# Altium schematic symbol library LEDs.SchLib: 35 symbols
Pins are listed as number, name and electrical type; pins without a type are passive.

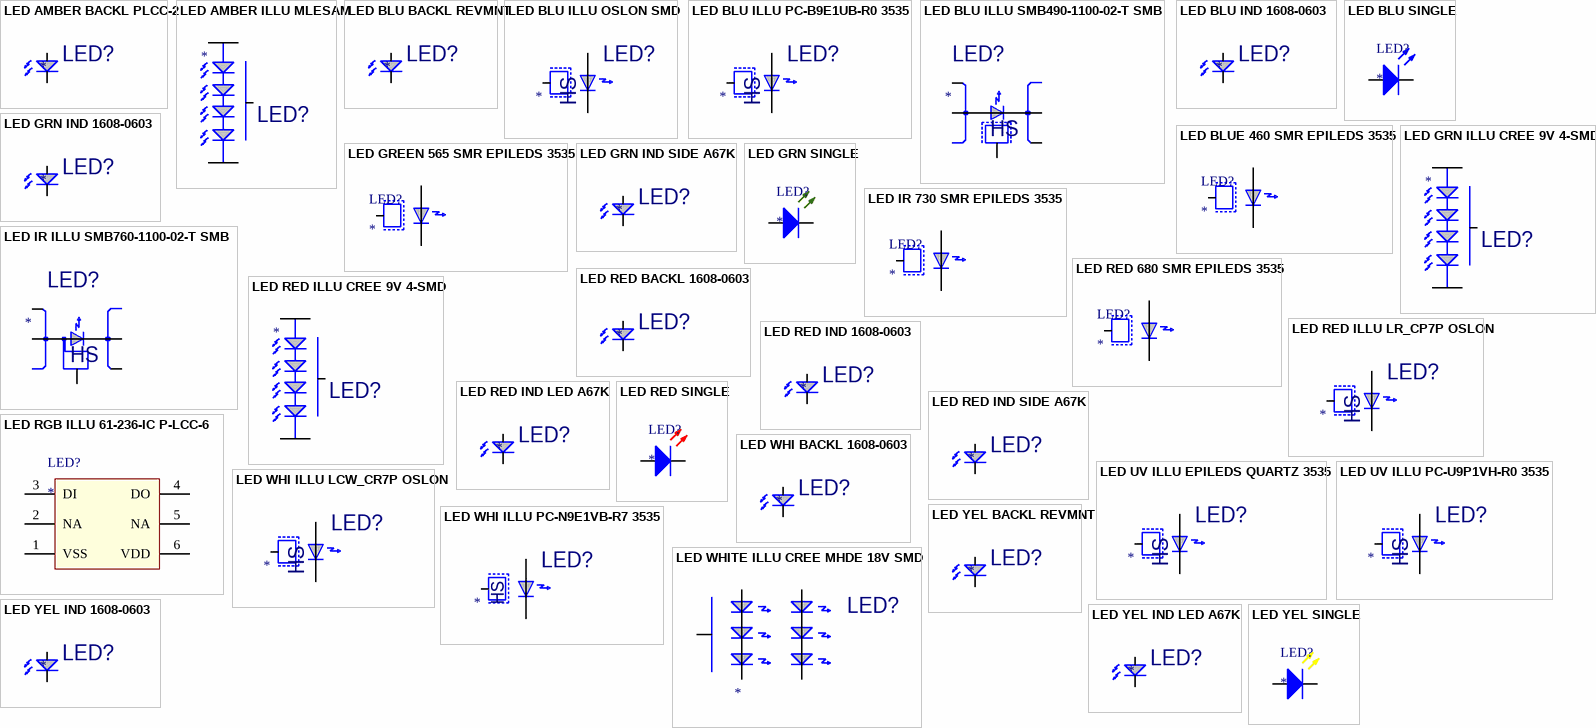
[diagram p0: symbols LED AMBER BACKL PLCC-2 to LED YEL SINGLE]

## LED AMBER BACKL PLCC-2
designator LED?
=Description
pins: 1, 2

## LED AMBER ILLU MLESAM
designator LED?
=Description
pins: 1, 2, 3, 4, 5

## LED BLU BACKL REVMNT
designator LED?
=Description
pins: 1, 2

## LED BLU ILLU OSLON SMD
designator LED?
=Description
pins: 1, 2, 3
text: HS

## LED BLU ILLU PC-B9E1UB-R0 3535
designator LED?
=Description
pins: 1, 2, 3
text: HS

## LED BLU ILLU SMB490-1100-02-T SMB
designator LED?
=Description
pins: 1, 2, 3, 4, 5, 6, 7
text: HS

## LED BLU IND 1608-0603
designator LED?
=Description
pins: 1, 2

## LED BLU SINGLE
designator LED?
=Description
pins: 1 K, 2 A

## LED BLUE 460 SMR EPILEDS 3535
designator LED?
=Description
pins: 1, 2, 3

## LED GREEN 565 SMR EPILEDS 3535
designator LED?
=Description
pins: 1, 2, 3

## LED GRN ILLU CREE 9V 4-SMD
designator LED?
=Description
pins: 1, 2, 3, 4, 5

## LED GRN IND 1608-0603
designator LED?
=Description
pins: 1, 2

## LED GRN IND SIDE A67K
designator LED?
=Description
pins: 1, 2

## LED GRN SINGLE
designator LED?
=Description
pins: 1 K, 2 A

## LED IR 730 SMR EPILEDS 3535
designator LED?
=Description
pins: 1, 2, 3

## LED IR ILLU SMB760-1100-02-T SMB
designator LED?
=Description
pins: 1, 2, 3, 4, 5, 6, 7
text: HS

## LED RED 680 SMR EPILEDS 3535
designator LED?
=Description
pins: 1, 2, 3

## LED RED BACKL 1608-0603
designator LED?
=Description
pins: 1, 2

## LED RED ILLU CREE 9V 4-SMD
designator LED?
=Description
pins: 1, 2, 3, 4, 5

## LED RED ILLU LR_CP7P OSLON
designator LED?
=Description
pins: 1, 2, 3
text: HS

## LED RED IND 1608-0603
designator LED?
=Description
pins: 1, 2

## LED RED IND LED A67K
designator LED?
=Description
pins: 1, 2

## LED RED IND SIDE A67K
designator LED?
=Description
pins: 1, 2

## LED RED SINGLE
designator LED?
=Description
pins: 1 K, 2 A

## LED RGB ILLU 61-236-IC P-LCC-6
designator LED?
=Description
pins: 1 VSS, 2 NA, 3 DI, 4 DO, 5 NA, 6 VDD

## LED UV ILLU EPILEDS QUARTZ 3535
designator LED?
=Description
pins: 1, 2, 3
text: HS

## LED UV ILLU PC-U9P1VH-R0 3535
designator LED?
=Description
pins: 1, 2, 3
text: HS

## LED WHI BACKL 1608-0603
designator LED?
=Description
pins: 1, 2

## LED WHI ILLU LCW_CR7P OSLON
designator LED?
=Description
pins: 1, 2, 3
text: HS

## LED WHI ILLU PC-N9E1VB-R7 3535
designator LED?
=Description
pins: 1, 2, 3
text: HS

## LED WHITE ILLU CREE MHDE 18V SMD
designator LED?
=Description
pins: 1, 2, 3, 4, 5

## LED YEL BACKL REVMNT
designator LED?
=Description
pins: 1, 2

## LED YEL IND 1608-0603
designator LED?
=Description
pins: 1, 2

## LED YEL IND LED A67K
designator LED?
=Description
pins: 1, 2

## LED YEL SINGLE
designator LED?
=Description
pins: 1 K, 2 A